# Altium schematic symbol library Connector_1x6.SchLib: 1 symbol
Pins are listed as number, name and electrical type; pins without a type are passive.

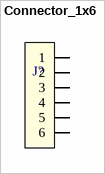
[diagram p0: symbol Connector_1x6]

## Connector_1x6
designator J?  (value not drawn)
pins: 1, 2, 3, 4, 5, 6